# Altium footprint library Connectors.PcbLib: 73 footprints (part 1 of 5)
Each footprint in its own frame and in the unit in brackets; x right, y up, seen from the top. Pads: shape width x height; smd on the part's side, far side on the other; paste and mask are expansions set on the pad; w line width, h text height; cw(c..) or ccw(c..) is an arc to the next point about the centre after c.
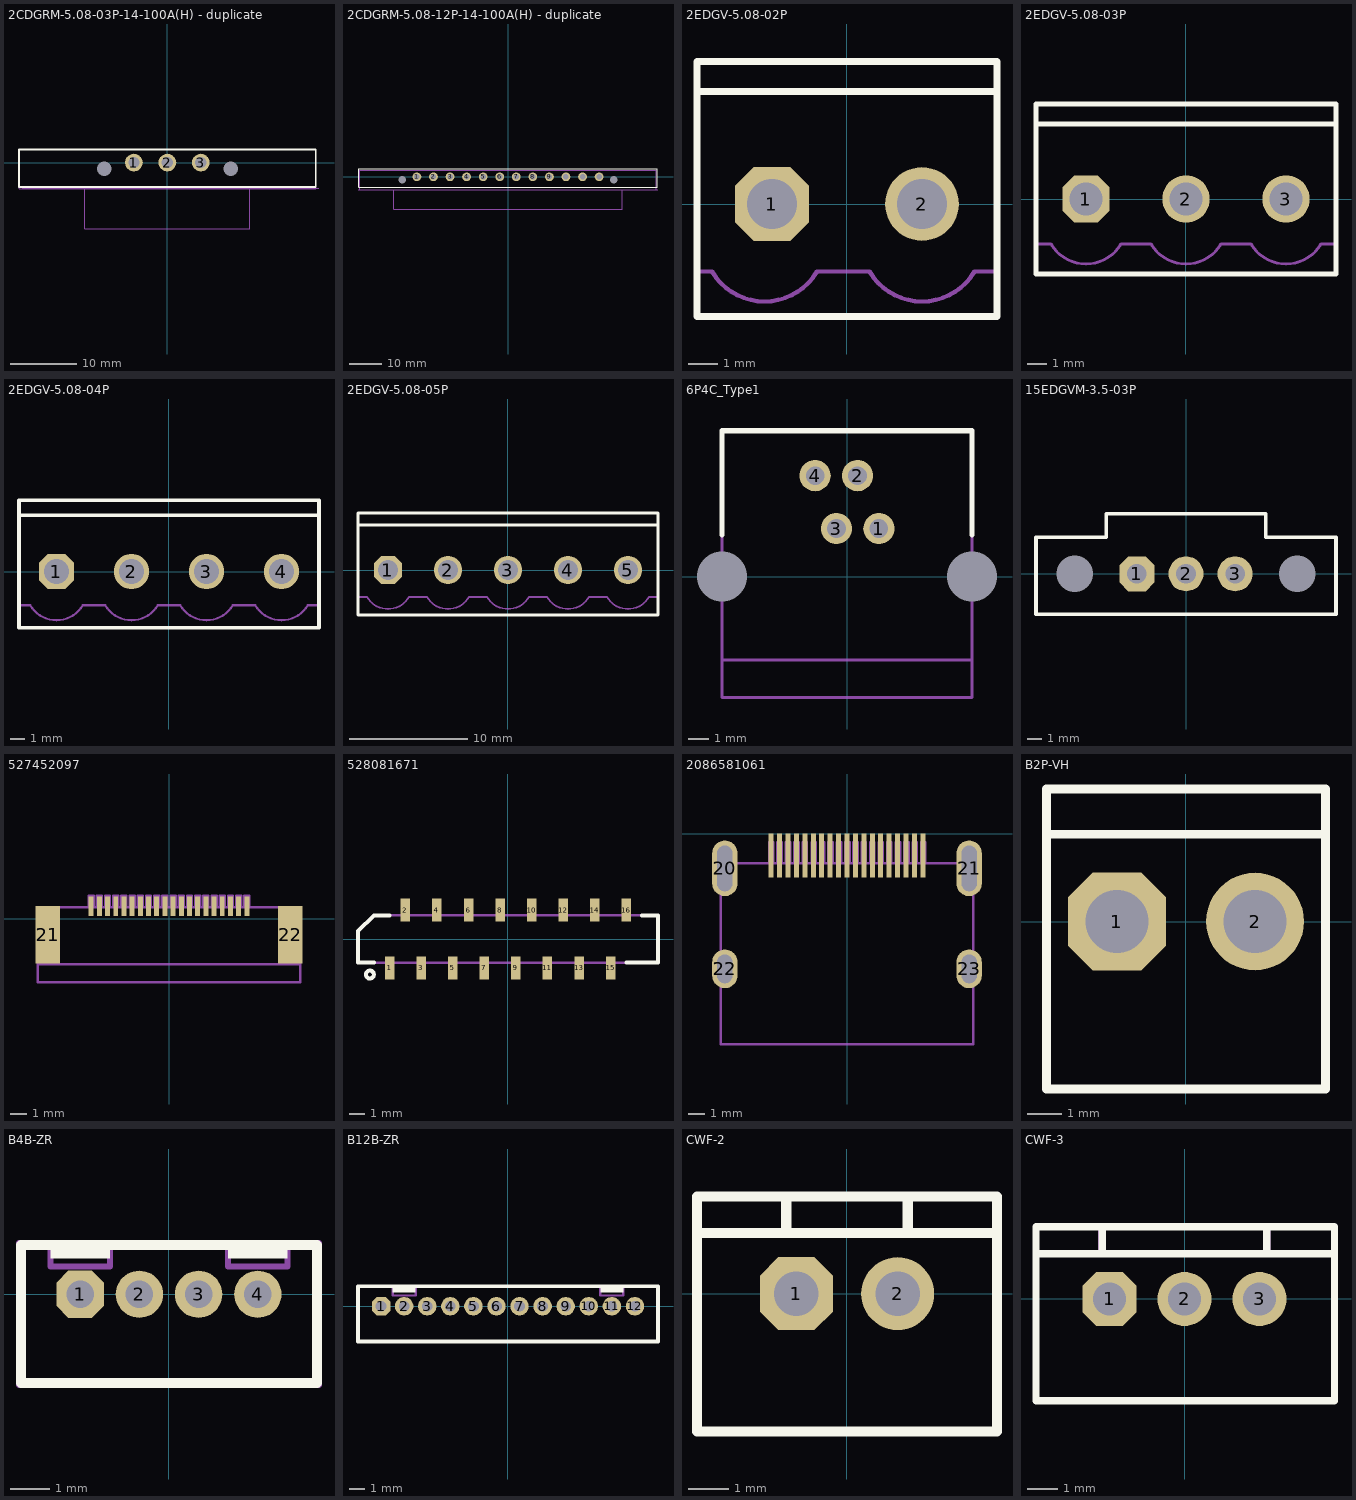
[diagram p0: the footprints below, top view; thin cyan lines are the x and y axes]

## 2CDGRM-5.08-03P-14-100A(H) - duplicate [mm]
pads (5):
  round 2.7 hole 1.7: 1(-5.08,0) 2(0,0) 3(5.08,0)
  round 0 hole 2.2 unplated: -1(-9.58,-0.9) -2(9.58,-0.9)
Top Overlay:
  lines w0.25: -22.5,-3.715 -22.5,2 22.5,2 22.5,-3.7 -22.5,-3.7
Mechanical 1:
  lines w0.15: -22,-3.9 23,-3.9
  text "PCB EDGE" at -4.05,-3.6 h1.1
Top Assembly:
  lines w0.15: -22.5,-4 22.5,-4 22.5,2 -22.5,2 -22.5,-4 ; -12.5,-10 12.5,-10 12.5,-4 -12.5,-4 -12.5,-10
3D body "2CDGRM-5.08-03P-14-100A(H).stp": height 13.8, standoff -4.4, extent -22.5,-10 22.5,2

## 2CDGRM-5.08-12P-14-100A(H) - duplicate [mm]
pads (14):
  round 2.7 hole 1.7: 1(-27.94,0) 2(-22.86,0) 3(-17.78,0) 4(-12.7,0) 5(-7.62,0) 6(-2.54,0) 7(2.54,0) 8(7.62,0) 9(12.7,0) 10(17.78,0) 11(22.86,0) 12(27.94,0)
  round 0 hole 2.2 unplated: -1(-32.44,-0.9) -2(32.44,-0.9)
Top Overlay:
  lines w0.25: -45.72,-3.175 45.72,-3.175 45.72,2.54 -45.72,2.54 -45.72,-3.175
Mechanical 1:
  lines w0.15: -46,-3.9 46,-3.9
  text "PCB EDGE" at -4.05,-3.6 h1.1
Top Assembly:
  lines w0.15: -45.5,-4 45.5,-4 45.5,2 -45.5,2 -45.5,-4 ; -35,-10 35,-10 35,-4 -35,-4 -35,-10
3D body "2CDGRM-5.08-12P-14-100A(H).stp": height 13.8, standoff -4.4, extent -45.36,-9.9 45.36,2.1

## 2EDGV-5.08-02P [mm]
pads (2):
  oct 2.5x2.5 hole 1.7: 1(-2.54,0)
  round 2.5 hole 1.7: 2(2.54,0)
Top Overlay:
  lines w0.25: -5.08,3.81 5.08,3.81 ; -5.08,-3.81 5.08,-3.81 5.08,4.826 -5.08,4.826 -5.08,-3.81
Top Assembly:
  lines w0.15: -5.08,-2.286 -4.572,-2.286 ccw(c-2.794,-1.238) -1.016,-2.286 0.762,-2.286 ccw(c2.54,-1.238) 4.318,-2.286 5.08,-2.286 ; -5.08,3.81 5.08,3.81 ; -5.08,-3.81 5.08,-3.81 5.08,4.826 -5.08,4.826 -5.08,-3.81
3D body "2EDGV-5.08-02P-14-100A(H).stp": height 12.2, standoff -3.8, extent -5.08,-3.81 5.08,4.79

## 2EDGV-5.08-03P [mm]
pads (3):
  oct 2.4x2.4 hole 1.7: 1(-5.08,0)
  round 2.4 hole 1.7: 2(0,0) 3(5.08,0)
Top Overlay:
  lines w0.25: -7.62,3.81 7.62,3.81 ; -7.62,-3.81 7.62,-3.81 7.62,4.826 -7.62,4.826 -7.62,-3.81
Top Assembly:
  lines w0.15: -7.62,-2.286 -6.858,-2.286 ccw(c-5.08,-1.238) -3.302,-2.286 -1.778,-2.286 ccw(c0,-1.238) 1.778,-2.286 3.302,-2.286 ccw(c5.08,-1.238) 6.858,-2.286 7.62,-2.286 ; -7.62,3.81 7.62,3.81 ; -7.62,-3.81 7.62,-3.81 7.62,4.826 -7.62,4.826 -7.62,-3.81
3D body "2EDGV-5.08-03P-14-100A(H).stp": height 12.2, standoff -3.8, extent -7.62,-3.774 7.62,4.826

## 2EDGV-5.08-04P [mm]
pads (4):
  oct 2.4x2.4 hole 1.7: 1(-7.62,0)
  round 2.4 hole 1.7: 2(-2.54,0) 3(2.54,0) 4(7.62,0)
Top Overlay:
  lines w0.25: -10.16,3.81 10.16,3.81 ; -10.16,-3.81 10.16,-3.81 10.16,4.826 -10.16,4.826 -10.16,-3.81
Top Assembly:
  lines w0.15: -10.16,-2.286 -9.398,-2.286 ccw(c-7.62,-1.238) -5.842,-2.286 -4.318,-2.286 ccw(c-2.54,-1.238) -0.762,-2.286 0.762,-2.286 ccw(c2.54,-1.238) 4.318,-2.286 5.842,-2.286 ccw(c7.62,-1.238) 9.398,-2.286 10.16,-2.286 ; -10.16,3.81 10.16,3.81 ; -10.16,-3.81 10.16,-3.81 10.16,4.826 -10.16,4.826 -10.16,-3.81
3D body "2EDGV-5.08-04P-14-100A(H).stp": height 12.2, standoff -3.8, extent -10.16,-3.81 10.16,4.79

## 2EDGV-5.08-05P [mm]
pads (5):
  oct 2.4x2.4 hole 1.7: 1(-10.16,0)
  round 2.4 hole 1.7: 2(-5.08,0) 3(0,0) 4(5.08,0) 5(10.16,0)
Top Overlay:
  lines w0.25: -12.7,3.81 12.7,3.81 ; -12.7,-3.81 12.7,-3.81 12.7,4.826 -12.7,4.826 -12.7,-3.81
Top Assembly:
  lines w0.15: -12.7,-2.286 -11.938,-2.286 ccw(c-10.16,-1.238) -8.382,-2.286 -6.858,-2.286 ccw(c-5.08,-1.238) -3.302,-2.286 -1.778,-2.286 ccw(c0,-1.238) 1.778,-2.286 3.302,-2.286 ccw(c5.08,-1.238) 6.858,-2.286 8.382,-2.286 ccw(c10.16,-1.238) 11.938,-2.286 12.7,-2.286 ; -12.7,3.81 12.7,3.81 ; -12.7,-3.81 12.7,-3.81 12.7,4.826 -12.7,4.826 -12.7,-3.81
3D body "2EDGV-5.08-05P-14-100A(H).stp": height 12.2, standoff -3.8, extent -12.7,-3.81 12.7,4.79

## 6P4C_Type1 [mm]
pads (6):
  round 1.5 hole 0.9: 1(1.53,2.3) 2(0.51,4.84) 3(-0.51,2.3) 4(-1.53,4.84)
  round 0 hole 2.4 unplated: 5(-6,0) 6(6,0)
Top Overlay:
  lines w0.25: -6,2 -6,7 6,7 6,2
Top Assembly:
  lines w0.15: -6,-4 6,-4 ; -6,-5.8 -6,0 -6,7 6,7 6,0 6,-5.8 -6,-5.8
3D body "TJ6P4C.stp": height 14.55, standoff -3.2, extent -7.25,-5.9 7.25,7.1

## 15EDGVM-3.5-03P [mm]
pads (5):
  oct 2.5x2.5 hole 1.4: 1(-3.5,0)
  round 2.5 hole 1.4: 2(0,0) 3(3.5,0)
  round 0 hole 2.6 unplated: -1(-7.92,0) -1(7.92,0)
Top Overlay:
  lines w0.25: -10.7,-2.9 10.7,-2.9 10.7,2.6 5.7,2.6 5.7,4.3 -5.7,4.3 -5.7,2.6 -10.7,2.6 -10.7,-2.9
Top Assembly:
  lines w0.15: -10.7,-2.9 10.7,-2.9 10.7,2.6 5.7,2.6 5.7,4.3 -5.7,4.3 -5.7,2.6 -10.7,2.6 -10.7,-2.9
3D body "15EDGVM-3_5-03P.STEP": height 9.2, standoff -3.4, extent -10.75,-3 10.75,4

## 527452097 [mm]
pads (22):
  rect 0.3x1.2 smd: 1(-4.75,0.75) 2(-4.25,0.75) 3(-3.75,0.75) 4(-3.25,0.75) 5(-2.75,0.75) 6(-2.25,0.75) 7(-1.75,0.75) 8(-1.25,0.75) 9(-0.75,0.75) 10(-0.25,0.75) 11(0.25,0.75) 12(0.75,0.75) 13(1.25,0.75) 14(1.75,0.75) 15(2.25,0.75) 16(2.75,0.75) 17(3.25,0.75) 18(3.75,0.75) 19(4.25,0.75) 20(4.75,0.75)
  rect 1.5x3.5 smd: 21(-7.4,-1) 22(7.4,-1)
Top Assembly:
  lines w0.15: -8,-2.8 8,-2.8 ; -8,-3.9 8,-3.9 8,0.7 -8,0.7 -8,-3.9 ; -4.9,0.7 -4.6,0.7 -4.6,1.4 -4.9,1.4 -4.9,0.7 ; -4.4,0.7 -4.1,0.7 -4.1,1.4 -4.4,1.4 -4.4,0.7 ; -3.9,0.7 -3.6,0.7 -3.6,1.4 -3.9,1.4 -3.9,0.7 ; -3.4,0.7 -3.1,0.7 -3.1,1.4 -3.4,1.4 -3.4,0.7 ; -2.9,0.7 -2.6,0.7 -2.6,1.4 -2.9,1.4 -2.9,0.7 ; -2.4,0.7 -2.1,0.7 -2.1,1.4 -2.4,1.4 -2.4,0.7 ; -1.9,0.7 -1.6,0.7 -1.6,1.4 -1.9,1.4 -1.9,0.7 ; -1.4,0.7 -1.1,0.7 -1.1,1.4 -1.4,1.4 -1.4,0.7 ; -0.9,0.7 -0.6,0.7 -0.6,1.4 -0.9,1.4 -0.9,0.7 ; -0.4,0.7 -0.1,0.7 -0.1,1.4 -0.4,1.4 -0.4,0.7 ; 0.1,0.7 0.4,0.7 0.4,1.4 0.1,1.4 0.1,0.7 ; 0.6,0.7 0.9,0.7 0.9,1.4 0.6,1.4 0.6,0.7 ; 1.1,0.7 1.4,0.7 1.4,1.4 1.1,1.4 1.1,0.7 ; 1.6,0.7 1.9,0.7 1.9,1.4 1.6,1.4 1.6,0.7 ; 2.1,0.7 2.4,0.7 2.4,1.4 2.1,1.4 2.1,0.7 ; 2.6,0.7 2.9,0.7 2.9,1.4 2.6,1.4 2.6,0.7 ; 3.1,0.7 3.4,0.7 3.4,1.4 3.1,1.4 3.1,0.7 ; 3.6,0.7 3.9,0.7 3.9,1.4 3.6,1.4 3.6,0.7 ; 4.1,0.7 4.4,0.7 4.4,1.4 4.1,1.4 4.1,0.7 ; 4.6,0.7 4.9,0.7 4.9,1.4 4.6,1.4 4.6,0.7
3D body "527452097.stp": height 1.91, standoff 0, extent -8.05,-3.95 8.05,1.05

## 528081671 [mm]
pads (16):
  rect 0.6x1.45 smd: 1(-7.5,-1.825) 2(-6.5,1.825) 3(-5.5,-1.825) 4(-4.5,1.825) 5(-3.5,-1.825) 6(-2.5,1.825) 7(-1.5,-1.825) 8(-0.5,1.825) 9(0.5,-1.825) 10(1.5,1.825) 11(2.5,-1.825) 12(3.5,1.825) 13(4.5,-1.825) 14(5.5,1.825) 15(6.5,-1.825) 16(7.5,1.825)
Top Overlay:
  circle w0.25: c-8.75,-2.25 r0.25
  lines w0.25: -8.5,-1.5 -9.5,-1.5 -9.5,0.5 -8.5,1.5 -7.5,1.5 ; 7.5,-1.5 9.5,-1.5 9.5,1.5 8.5,1.5 ; -7.5,1.5 -7.5,1.5
  lines w0.254: -9.5,0.5 -9.5,0.5
Top Assembly:
  circle w0.15: c-8.75,-2.25 r0.25
  lines w0.15: -9.5,-1.5 -9.5,0.5 ; -9.5,-1.5 -9.5,-1.5 ; -9.5,-1.5 9.5,-1.5 9.5,1.5 ; -9.5,0.5 -9.5,0.5 ; -9.5,0.5 -8.5,1.5 9.5,1.5 ; 9.5,1.5 9.5,1.5
3D body "528081671.stp": height 5.1, standoff 0, extent -9.5,-2.25 9.5,2.25

## 2086581061 [mm]
pads (23):
  rect 0.3x2.6 smd: 1(4.5,-1.3) 2(4,-1.3) 3(3.5,-1.3) 4(3,-1.3) 5(2.5,-1.3) 6(2,-1.3) 7(1.5,-1.3) 8(1,-1.3) 9(0.5,-1.3) 10(0,-1.3) 11(-0.5,-1.3) 12(-1,-1.3) 13(-1.5,-1.3) 14(-2,-1.3) 15(-2.5,-1.3) 16(-3,-1.3) 17(-3.5,-1.3) 18(-4,-1.3) 19(-4.5,-1.3)
  oval 1.5x3.3 hole 0.9 slot 2.7 at 90 deg: 20(-7.25,-2.06) 21(7.25,-2.06)
  oval 1.5x2.3 hole 0.9 slot 1.7 at 90 deg: 22(-7.25,-8.02) 23(7.25,-8.02)
Top Assembly:
  lines w0.15: -7.5,-12.5 7.5,-12.5 7.5,-1.75 -7.5,-1.75 -7.5,-12.5 ; -4.625,-1.75 -4.375,-1.75 -4.375,-0.5 -4.625,-0.5 -4.625,-1.75 ; -4.125,-1.75 -3.875,-1.75 -3.875,-0.5 -4.125,-0.5 -4.125,-1.75 ; -3.625,-1.75 -3.375,-1.75 -3.375,-0.5 -3.625,-0.5 -3.625,-1.75 ; -3.125,-1.75 -2.875,-1.75 -2.875,-0.5 -3.125,-0.5 -3.125,-1.75 ; -2.625,-1.75 -2.375,-1.75 -2.375,-0.5 -2.625,-0.5 -2.625,-1.75 ; -2.1,-1.75 -1.85,-1.75 -1.85,-0.5 -2.1,-0.5 -2.1,-1.75 ; -1.6,-1.75 -1.35,-1.75 -1.35,-0.5 -1.6,-0.5 -1.6,-1.75 ; -1.1,-1.75 -0.85,-1.75 -0.85,-0.5 -1.1,-0.5 -1.1,-1.75 ; -0.6,-1.75 -0.35,-1.75 -0.35,-0.5 -0.6,-0.5 -0.6,-1.75 ; -0.1,-1.75 0.15,-1.75 0.15,-0.5 -0.1,-0.5 -0.1,-1.75 ; 0.375,-1.75 0.625,-1.75 0.625,-0.5 0.375,-0.5 0.375,-1.75 ; 0.875,-1.75 1.125,-1.75 1.125,-0.5 0.875,-0.5 0.875,-1.75 ; 1.375,-1.75 1.625,-1.75 1.625,-0.5 1.375,-0.5 1.375,-1.75 ; 1.875,-1.75 2.125,-1.75 2.125,-0.5 1.875,-0.5 1.875,-1.75 ; 2.375,-1.75 2.625,-1.75 2.625,-0.5 2.375,-0.5 2.375,-1.75 ; 2.9,-1.75 3.15,-1.75 3.15,-0.5 2.9,-0.5 2.9,-1.75 ; 3.4,-1.75 3.65,-1.75 3.65,-0.5 3.4,-0.5 3.4,-1.75 ; 3.9,-1.75 4.15,-1.75 4.15,-0.5 3.9,-0.5 3.9,-1.75 ; 4.4,-1.75 4.65,-1.75 4.65,-0.5 4.4,-0.5 4.4,-1.75
3D body "2086581061.stp": height 6.27, standoff -2.18, extent -7.5,-12.575 7.5,-0.425

## B2P-VH [mm]
pads (2):
  oct 2.8x2.8 hole 1.8: 1(-1.98,0)
  round 2.8 hole 1.8: 2(1.98,0)
Top Overlay:
  lines w0.25: -4,2.5 4,2.5 ; -4,-4.8 4,-4.8 4,3.8 -4,3.8 -4,-4.8
Top Assembly:
  lines w0.15: -4,2.5 4,2.5 ; -4,-4.8 4,-4.8 4,3.8 -4,3.8 -4,-4.8
3D body "B2P-VH.stp": height 10.9, standoff -3.7, extent -3.93,-4.8 3.93,3.7

## B4B-ZR [mm]
pads (4):
  oct 1.2x1.2 hole 0.7: 1(-2.25,0)
  round 1.2 hole 0.7: 2(-0.75,0) 3(0.75,0) 4(2.25,0)
Top Overlay:
  rectangle: 1.5,0.9 3,1.3
  rectangle: -3,0.9 -1.5,1.3
  lines w0.25: -3.75,-2.25 3.75,-2.25 3.75,1.25 -3.75,1.25 -3.75,-2.25
Top Assembly:
  lines w0.15: -3.8,-2.3 3.8,-2.3 3.8,1.3 -3.8,1.3 -3.8,-2.3 ; -3,0.7 -1.5,0.7 -1.5,1.3 -3,1.3 -3,0.7 ; 1.5,0.7 3,0.7 3,1.3 1.5,1.3 1.5,0.7
3D body "B4B-ZR.STEP": height 4.5, standoff -2.7, extent -3.75,-2.2 3.75,1.3

## B12B-ZR [mm]
pads (12):
  oct 1.2x1.2 hole 0.7: 1(-8.25,0)
  round 1.2 hole 0.7: 2(-6.75,0) 3(-5.25,0) 4(-3.75,0) 5(-2.25,0) 6(-0.75,0) 7(0.75,0) 8(2.25,0) 9(3.75,0) 10(5.25,0) 11(6.75,0) 12(8.25,0)
Top Overlay:
  rectangle: -7.5,0.9 -6,1.3
  rectangle: 6,0.9 7.5,1.3
  lines w0.25: -9.75,-2.3 9.75,-2.3 9.75,1.3 -9.75,1.3 -9.75,-2.3
Top Assembly:
  lines w0.15: -9.749,-2.305 9.751,-2.305 9.751,1.295 -9.749,1.295 -9.749,-2.305 ; -7.5,0.7 -6,0.7 -6,1.3 -7.5,1.3 -7.5,0.7 ; 6,0.7 7.5,0.7 7.5,1.3 6,1.3 6,0.7
3D body "B12B-ZR.STEP": height 4.5, standoff -2.7, extent -9.75,-2.2 9.75,1.3

## CWF-2 [mm] "3d model: https://www.3dcontentcentral.com/download-model.aspx?catalogid=171&id=1750787"
pads (2):
  oct 1.8x1.8 hole 1.1: 1(-1.25,0)
  round 1.8 hole 1.1: 2(1.25,0)
Top Overlay:
  lines w0.25: -3.7,1.5 3.7,1.5 ; -1.5,1.5 -1.5,2.4 ; 1.5,1.5 1.5,2.4 ; -3.7,-3.4 3.7,-3.4 3.7,2.4 -3.7,2.4 -3.7,-3.4
Top Assembly:
  lines w0.15: -3.7,1.5 3.7,1.5 ; -3.7,-3.4 3.7,-3.4 3.7,2.4 -3.7,2.4 -3.7,-3.4 ; -1.5,1.5 1.5,1.5 1.5,2.4 -1.5,2.4 -1.5,1.5
3D body "CWF-2.step": height 7, standoff -3.3, extent -3.7,-3.4 3.7,2.35

## CWF-3 [mm] "3d model: https://www.3dcontentcentral.com/download-model.aspx?catalogid=171&id=1750787"
pads (3):
  oct 1.8x1.8 hole 1.1: 1(-2.5,0)
  round 1.8 hole 1.1: 2(0,0) 3(2.5,0)
Top Overlay:
  lines w0.25: -4.95,1.5 5,1.5 ; -2.75,1.5 -2.75,2.4 ; 2.75,1.5 2.75,2.4 ; -4.95,-3.4 -4.95,2.4 5,2.4 5,-3.4 -4.95,-3.4
Top Assembly:
  lines w0.15: -4.95,1.5 5,1.5 ; 0.2,1.5 -2.8,1.5 -2.8,2.4 0.2,2.4 ; 2.8,1.5 2.8,2.4 ; -4.95,-3.4 -4.95,2.4 2.45,2.4 5.05,2.4 5.05,-3.4 2.45,-3.4 -4.95,-3.4
3D body "B3B-XH_mod.step": height 7, standoff -3.3, extent -4.95,-3.375 4.95,2.375